# Altium footprint library SOIC127P600X175-14N.PcbLib: 1 footprints
Each footprint in its own frame and in the unit in brackets; x right, y up, seen from the top. Pads: shape width x height; smd on the part's side, far side on the other; paste and mask are expansions set on the pad; w line width, h text height; cw(c..) or ccw(c..) is an arc to the next point about the centre after c.
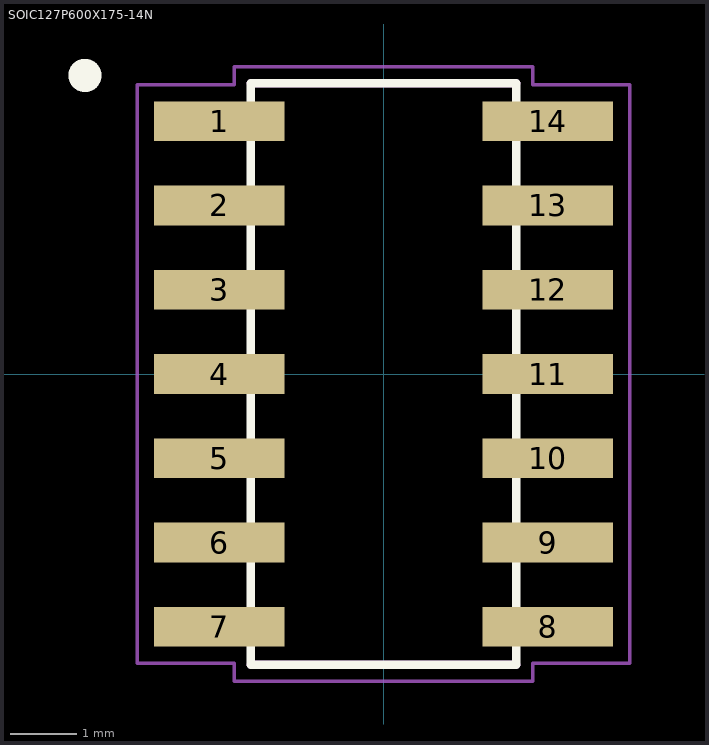
[diagram p0: the footprint, top view; thin cyan lines are the x and y axes]

## SOIC127P600X175-14N [mm]
pads (14):
  rect 1.97x0.6 smd: 1(-2.475,3.81) 2(-2.475,2.54) 3(-2.475,1.27) 4(-2.475,0) 5(-2.475,-1.27) 6(-2.475,-2.54) 7(-2.475,-3.81) 8(2.475,-3.81) 9(2.475,-2.54) 10(2.475,-1.27) 11(2.475,0) 12(2.475,1.27) 13(2.475,2.54) 14(2.475,3.81)
Top Overlay:
  circle w0.3: c-4.5,4.5 r0.1
  lines w0.127: -2,-4.38 2,-4.38 2,4.38 -2,4.38 -2,-4.38
Mechanical 4:
  lines w0.127: -2,-4.38 2,-4.38 -2,-4.38 ; -2,4.38 2,4.38 -2,4.38
Mechanical 16:
  lines w0.05: -3.71,-4.36 -2.25,-4.36 -2.25,-4.63 2.25,-4.63 2.25,-4.36 3.71,-4.36 3.71,4.36 2.25,4.36 2.25,4.63 -2.25,4.63 -2.25,4.36 -3.71,4.36 -3.71,-4.36